# EAGLE library part LTC1998 (library xmaker)
Linear Technology LTC1998 - 2.5uA, 1% Accurate SOT-23 Comparator and Voltage Reference for Battery Monitoring
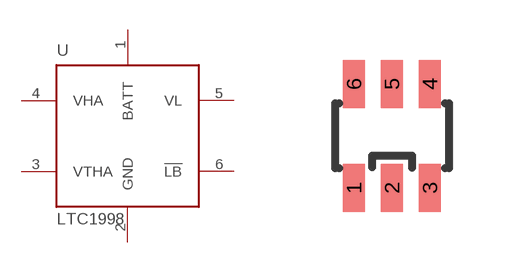
[diagram p20: symbol with the pads of SOT23-6; footprint SOT23-6]

Designator prefix U

## LTC1998  [SOT23-6]
1  BATT
2  GND
3  VTHA
4  VHA
5  VL
6  !LB

## Footprint SOT23-6 (pad centres in mm)
Small Outline Transistor
smd 0.55 x 1.2: 1 -0.95,-1.3; 2 0,-1.3; 3 0.95,-1.3; 4 0.95,1.3; 5 0,1.3; 6 -0.95,1.3